# EAGLE library part SN754410 (library ASL)
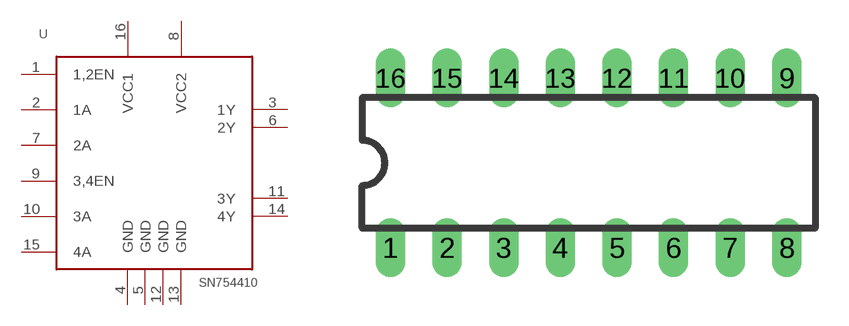
[diagram p12: symbol with the pads of DIL16; footprint DIL16]

Designator prefix U

## SN754410  [DIL16]
1  1,2EN
2  1A
3  1Y
4  GND  pwr
5  GND  pwr
6  2Y
7  2A
8  VCC2  pwr
9  3,4EN
10  3A
11  3Y
12  GND  pwr
13  GND  pwr
14  4Y
15  4A
16  VCC1  pwr

## Footprint DIL16 (pad centres in mm)
Dual In Line Package
drill 0.813 long: 1 -8.89,-3.81; 2 -6.35,-3.81; 3 -3.81,-3.81; 4 -1.27,-3.81; 5 1.27,-3.81; 6 3.81,-3.81; 7 6.35,-3.81; 8 8.89,-3.81; 9 8.89,3.81; 10 6.35,3.81; 11 3.81,3.81; 12 1.27,3.81; 13 -1.27,3.81; 14 -3.81,3.81; 15 -6.35,3.81; 16 -8.89,3.81